# EAGLE library part TB001-500-10BE (library TB001-500-10BE)
Fixed Terminal Blocks Source: Datasheet <https://componentsearchengine.com/Datasheets/1/TB001-500-10BE.pdf>
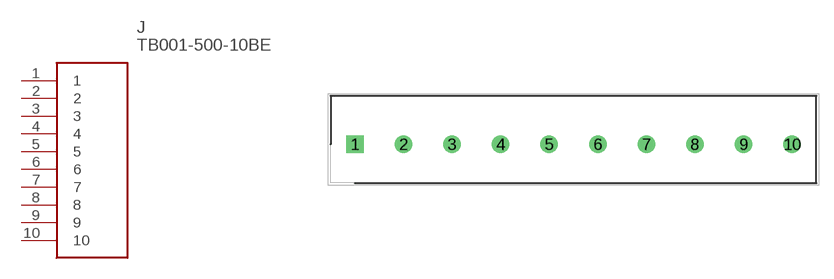
[diagram p0: symbol with the pads of SHDR10W100P0X500_1X10_5000X900; footprint SHDR10W100P0X500_1X10_5000X900]

Designator prefix J

## TB001-500-10BE (Description: Fixed Terminal Blocks; Height: 12.5mm; Manufacturer_Name: CUI Devices; Manufacturer_Part_Number: TB001-500-10BE; Mouser_Part_Number: 490-TB001-500-10BE; Mouser_Price-Stock: https://www.mouser.co.uk/ProductDetail/CUI-Devices/TB001-500-10BE?qs=vLWxofP3U2zH1ZAwWBP5mg%3D%3D)  [SHDR10W100P0X500_1X10_5000X900]
1  1
2  2
3  3
4  4
5  5
6  6
7  7
8  8
9  9
10  10

## Footprint SHDR10W100P0X500_1X10_5000X900 (pad centres in mm)
TB001-500-10BE
drill 1.2 pad 1.8 square: 1 0,0
drill 1.2 pad 1.8: 2 5,0; 3 10,0; 4 15,0; 5 20,0; 6 25,0; 7 30,0; 8 35,0; 9 40,0; 10 45,0